# EAGLE library part MCP2200-I/SS (library BLDCBOMv4)
MCP2200 Series 5.5 V 8 Channel USB to UART Serial Converter SMT- SSOP-20LD
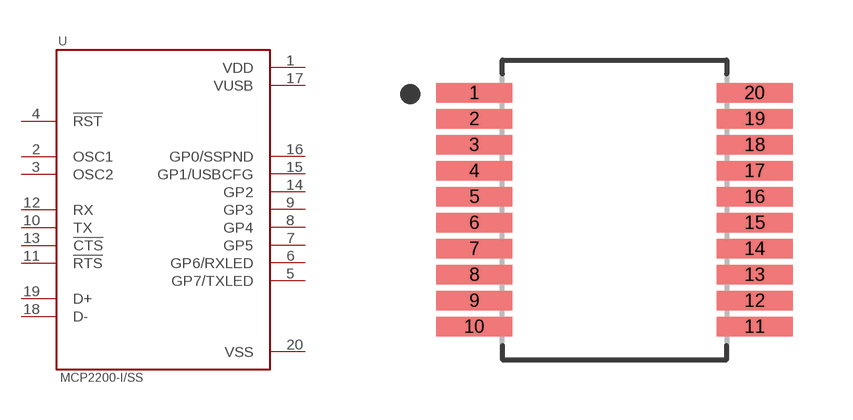
[diagram p5: symbol with the pads of SOP65P780X200-20N; footprint SOP65P780X200-20N]

Designator prefix U

## MCP2200-I/SS (DESCRIPTION: USB Bridge, USB to UART USB 2.0 UART Interface 20-SSOP; DIGI-KEY_PART_NUMBER: MCP2200-I/SS-ND; DIGI-KEY_PURCHASE_URL: https://www.digikey.com/product-detail/en/microchip-technology/MCP2200-I-SS/MCP2200-I-SS-ND/2260702?utm_source=snapeda&utm_medium=aggregator&utm_campaign=symbol; MF: Microchip; MP: MCP2200-I/SS; PACKAGE: SSOP-20 Microchip)  [SOP65P780X200-20N]
1  VDD  pwr
2  OSC1  in
3  OSC2  out
4  !RST  in
5  GP7/TXLED
6  GP6/RXLED
7  GP5
8  GP4
9  GP3
10  TX  out
11  !RTS  out
12  RX  in
13  !CTS  in
14  GP2
15  GP1/USBCFG
16  GP0/SSPND
17  VUSB  pwr
18  D-
19  D+
20  VSS  pwr

## Footprint SOP65P780X200-20N (pad centres in mm)
smd 1.9 x 0.48: 1 -3.505,2.925; 2 -3.505,2.275; 3 -3.505,1.625; 4 -3.505,0.975; 5 -3.505,0.325; 6 -3.505,-0.325; 7 -3.505,-0.975; 8 -3.505,-1.625; 9 -3.505,-2.275; 10 -3.505,-2.925; 11 3.505,-2.925; 12 3.505,-2.275; 13 3.505,-1.625; 14 3.505,-0.975; 15 3.505,-0.325; 16 3.505,0.325; 17 3.505,0.975; 18 3.505,1.625; 19 3.505,2.275; 20 3.505,2.925